# Altium footprint library ZZB_Lib.PcbLib: 83 footprints (part 2 of 6)
Each footprint in its own frame and in the unit in brackets; x right, y up, seen from the top. Pads: shape width x height; smd on the part's side, far side on the other; paste and mask are expansions set on the pad; w line width, h text height; cw(c..) or ccw(c..) is an arc to the next point about the centre after c.
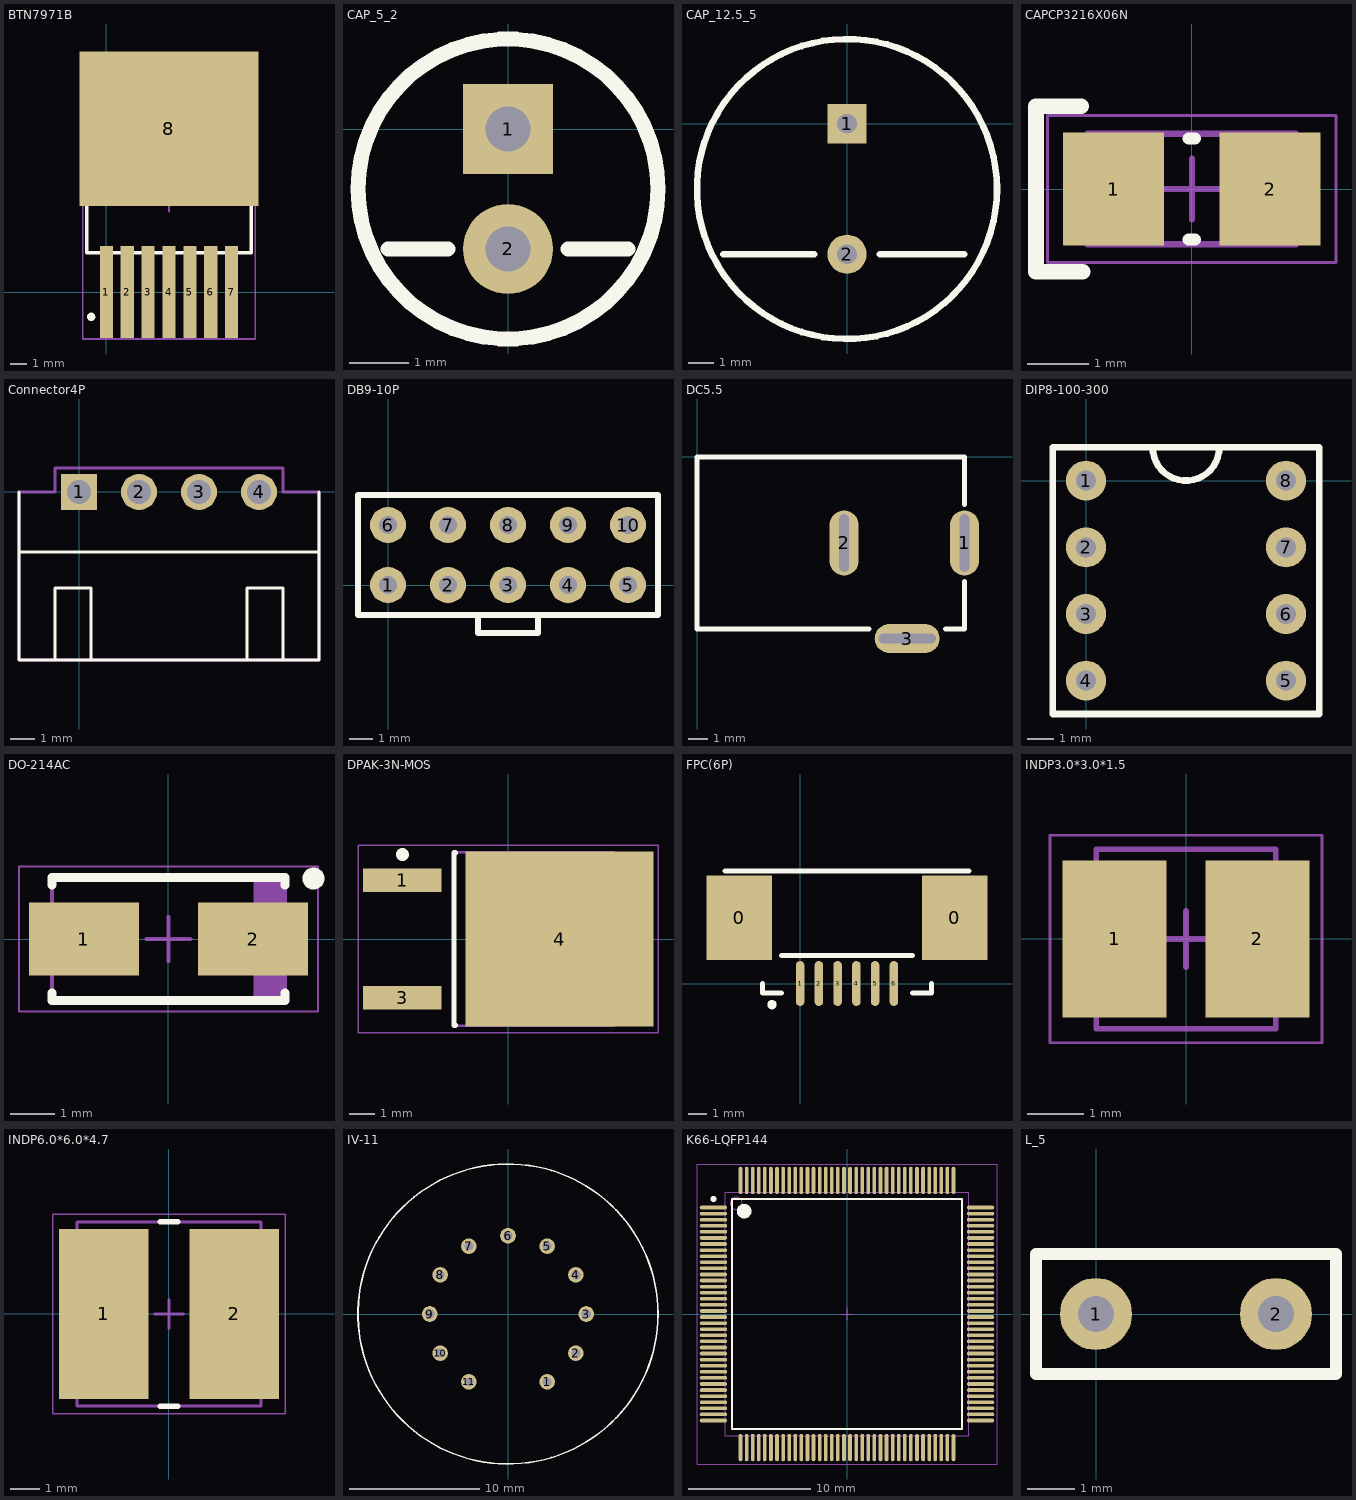
[diagram p1: the footprints below, top view; thin cyan lines are the x and y axes]

## BTN7971B [mm]
pads (8):
  rect 0.8x5.6 smd: 1(0,0) 2(1.27,0) 3(2.54,0) 4(3.81,0) 5(5.08,0) 6(6.35,0) 7(7.62,0)
  rect 10.9x9.4 smd: 8(3.81,9.95)
Top Overlay:
  circle w0.25: c-0.925,-1.5 r0.125
  lines w0.2: -1.19,6.15 -1.19,2.4 8.81,2.4 8.81,6.15
Mechanical 13:
  lines w0.1: -1.19,2.4 -1.19,11.65 8.81,11.65 8.81,2.4 -1.19,2.4
Mechanical 15:
  lines w0.1: 3.81,4.9 3.81,5.9 ; -1.44,-2.85 -1.44,13.65 9.06,13.65 9.06,-2.85 -1.44,-2.85
3D body: height 4.4, standoff 0.1, extent -1.19,2.4 8.81,11.65

## CAP_5_2 [mil]
pads (2):
  rect 60x60 hole 30: 1(0,0)
  round 60 hole 30: 2(0,-80)
Top Overlay:
  circle w10: c0,-40 r100
  lines w10: -80,-80 -40,-80 ; 40,-80 80,-80

## CAP_12.5_5 [mil]
pads (2):
  rect 60x60 hole 30: 1(0,0)
  round 60 hole 30: 2(0,-200)
Top Overlay:
  circle w10: c0,-100 r230
  lines w10: -190,-200 -50,-200 ; 50,-200 180,-200

## CAPCP3216X06N [mm]
pads (2):
  rect 1.65x1.85 smd: 1(-1.275,0) 2(1.275,0)
Top Overlay:
  lines w0.2: -0.05,-0.825 0.05,-0.825 ; -0.05,0.825 0.05,0.825
  lines w0.254: -1.803,1.346 -2.54,1.346 -2.54,-1.346 -1.778,-1.346
Mechanical 13:
  lines w0.1: -1.7,-0.9 -1.7,0.9 1.7,0.9 1.7,-0.9 -1.7,-0.9
Mechanical 15:
  lines w0.05: -2.35,-1.2 -2.35,1.2 2.35,1.2 2.35,-1.2 -2.35,-1.2
  lines w0.1: -0.5,0 0.5,0 ; 0,-0.5 0,0.5
3D body: height 0.6, standoff 0, extent -0.9,-0.9 0.9,0.9
3D body: height 0.6, standoff 0, extent -1.7,-0.9 -0.9,0.9
3D body: height 0.6, standoff 0, extent 0.9,-0.9 1.7,0.9

## Connector4P [mm]
pads (4):
  rect 1.5x1.5 hole 1: 1(0,0)
  round 1.5 hole 1: 2(2.5,0) 3(5,0) 4(7.5,0)
Top Overlay:
  lines w0.127: -2.5,-2.5 10,-2.5 ; -2.5,0 -2.5,-7 10,-7 10,0 ; -1,-7 -1,-4 0.5,-4 0.5,-7 ; 7,-7 7,-4 8.5,-4 8.5,-7
Mechanical 15:
  lines w0.127: 8.5,0 8.5,1 -1,1 -1,0 -2.5,0 -2.5,-7 10,-7 10,0 8.5,0 ; 8.5,0 8.5,0

## DB9-10P [mil]
pads (10):
  round 60 hole 30: 1(0,0) 2(100,0) 3(200,0) 4(300,0) 5(400,0) 6(0,100) 7(100,100) 8(200,100) 9(300,100) 10(400,100)
Top Overlay:
  lines w10: 150,-50 150,-80 250,-80 250,-50 ; -50,-50 -50,150 450,150 450,-50 -50,-50

## DC5.5 [mm]
pads (3):
  oval 1.524x3.4 hole 0.5 slot 3 at 90 deg: 1(14,-4.5) 2(7.7,-4.5)
  oval 3.4x1.524 hole 0.5 slot 3 at 0 deg: 3(11,-9.5)
Top Overlay:
  lines w0.254: 9,-9 0,-9 0,0 14,0 14,-2.5 ; 13,-9 14,-9 14,-6.5

## DIP8-100-300 [mil]
pads (8):
  round 60 hole 30: 1(0,0) 2(0,-100) 3(0,-200) 4(0,-300) 5(300,-300) 6(300,-200) 7(300,-100) 8(300,0)
Top Overlay:
  lines w10: 100,50 ccw(c150,50) 200,50 ; -50,-350 -50,50 350,50 350,-350 -50,-350

## DO-214AC [mm] "Molded Diode, 2-Leads, Body 5.00x2.49mm, IPC Medium Density"
height 2.42
pads (2):
  rect 2.5x1.65 smd: 1(-1.925,0) 2(1.925,0)
Top Overlay:
  circle w0.25: c3.3,1.375 r0.125
  lines w0.2: -2.65,-1.225 -2.65,-1.4 2.65,-1.4 2.65,-1.225 ; -2.65,1.225 -2.65,1.4 2.65,1.4 2.65,1.225
Mechanical 13:
  rectangle: 1.937,-1.4 2.65,1.4
  lines w0.1: -2.65,-1.4 -2.65,1.4 2.65,1.4 2.65,-1.4 -2.65,-1.4
Mechanical 15:
  lines w0.05: -3.4,-1.65 -3.4,1.65 3.4,1.65 3.4,-1.65 -3.4,-1.65
  lines w0.1: -0.5,0 0.5,0 ; 0,-0.5 0,0.5
3D body: height 2.42, standoff 0, extent -2.65,-1.4 2.65,1.4

## DPAK-3N-MOS [mm] "D-PAK, 3-Pads, Body 6.21x6.73mm (max), IPC Medium Density"
height 2.38
pads (3):
  rect 3.05x0.9 smd: 1(-4.1,2.28) 3(-4.1,-2.28)
  rect 7.3x6.8 smd: 4(2,0)
Top Overlay:
  circle w0.25: c-4.1,3.28 r0.125
  lines w0.2: -2.05,-3.35 -2.1,-3.35 -2.1,3.35 -2.05,3.35
Mechanical 13:
  lines w0.1: -2.1,-3.375 -2.1,3.375 4.12,3.375 4.12,-3.375 -2.1,-3.375
Mechanical 15:
  lines w0.05: -5.825,-3.65 -5.825,3.65 5.825,3.65 5.825,-3.65 -5.825,-3.65
  lines w0.1: -0.5,0 0.5,0 ; 0,-0.5 0,0.5
3D body: height 2.38, standoff 0, extent -2.1,-3.375 4.12,3.375

## FPC(6P) [mm]
pads (8):
  rect 3.5x4.5 smd: 0(-3.25,3.5) 0(8.25,3.5)
  oval 0.45x2.4 smd: 1(0,0) 2(1,0) 3(2,0) 4(3,0) 5(4,0) 6(5,0)
Top Overlay:
  circle w0.25: c-1.5,-1.125 r0.125
  lines w0.254: -4,6 9,6 ; -2,0 -2,-0.5 -1,-0.5 ; -1,1.5 6,1.5 ; 6,-0.5 7,-0.5 7,0

## INDP3.0*3.0*1.5 [mm] "Precision Wire Wound Inductor, 2-Leads, Body 3.10x3.10mm, IPC Medium Density"
height 1.5
pads (2):
  rect 1.85x2.8 smd: 1(-1.275,0) 2(1.275,0)
Mechanical 13:
  lines w0.1: -1.6,-1.6 1.6,-1.6 1.6,1.6 -1.6,1.6 -1.6,-1.6
Mechanical 15:
  lines w0.05: -2.425,-1.85 2.425,-1.85 2.425,1.85 -2.425,1.85 -2.425,-1.85
  lines w0.1: -0.5,0 0.5,0 ; 0,-0.5 0,0.5
3D body: height 1.5, standoff 0, extent -1.6,-1.6 1.6,1.6

## INDP6.0*6.0*4.7 [mm] "Precision Wire Wound Inductor, 2-Leads, Body 6.15x6.15mm, IPC Medium Density"
height 4.7
pads (2):
  rect 3.05x5.8 smd: 1(-2.225,0) 2(2.225,0)
Top Overlay:
  lines w0.2: -0.3,-3.15 0.3,-3.15 ; -0.3,3.15 0.3,3.15
Mechanical 13:
  lines w0.1: -3.15,-3.15 3.15,-3.15 3.15,3.15 -3.15,3.15 -3.15,-3.15
Mechanical 15:
  lines w0.05: -3.975,-3.4 3.975,-3.4 3.975,3.4 -3.975,3.4 -3.975,-3.4
  lines w0.1: -0.5,0 0.5,0 ; 0,-0.5 0,0.5
3D body: height 4.7, standoff 0, extent -3.15,-3.15 3.15,3.15

## IV-11 [mm]
pads (11):
  round 1.2 hole 0.7: 1(3,-5.2) 2(5.2,-3) 3(6,0) 4(5.2,3) 5(3,5.2) 6(0,6) 7(-3,5.2) 8(-5.2,3) 9(-6,0) 10(-5.2,-3) 11(-3,-5.2)
Top Overlay:
  circle w0.127: c0,0 r11.5

## K66-LQFP144 [mm] "TSQFP, 144-Leads, Body 20.00x20.00mm, Pitch 0.50mm, IPC Medium Density"
height 1.45
pads (144):
  oval 2.25x0.3 smd: 1(-10.975,8.75) 2(-10.975,8.25) 3(-10.975,7.75) 4(-10.975,7.25) 5(-10.975,6.75) 6(-10.975,6.25) 7(-10.975,5.75) 8(-10.975,5.25) 9(-10.975,4.75) 10(-10.975,4.25) 11(-10.975,3.75) 12(-10.975,3.25) 13(-10.975,2.75) 14(-10.975,2.25) 15(-10.975,1.75) 16(-10.975,1.25) 17(-10.975,0.75) 18(-10.975,0.25) 19(-10.975,-0.25) 20(-10.975,-0.75) 21(-10.975,-1.25) 22(-10.975,-1.75) 23(-10.975,-2.25) 24(-10.975,-2.75) 25(-10.975,-3.25) 26(-10.975,-3.75) 27(-10.975,-4.25) 28(-10.975,-4.75) 29(-10.975,-5.25) 30(-10.975,-5.75) 31(-10.975,-6.25) 32(-10.975,-6.75) 33(-10.975,-7.25) 34(-10.975,-7.75) 35(-10.975,-8.25) 36(-10.975,-8.75) 73(10.975,-8.75) 74(10.975,-8.25) 75(10.975,-7.75) 76(10.975,-7.25) 77(10.975,-6.75) 78(10.975,-6.25) 79(10.975,-5.75) 80(10.975,-5.25) 81(10.975,-4.75) 82(10.975,-4.25) 83(10.975,-3.75) 84(10.975,-3.25) 85(10.975,-2.75) 86(10.975,-2.25) 87(10.975,-1.75) 88(10.975,-1.25) 89(10.975,-0.75) 90(10.975,-0.25) 91(10.975,0.25) 92(10.975,0.75) 93(10.975,1.25) 94(10.975,1.75) 95(10.975,2.25) 96(10.975,2.75) 97(10.975,3.25) 98(10.975,3.75) 99(10.975,4.25) 100(10.975,4.75) 101(10.975,5.25) 102(10.975,5.75) 103(10.975,6.25) 104(10.975,6.75) 105(10.975,7.25) 106(10.975,7.75) 107(10.975,8.25) 108(10.975,8.75)
  oval 0.3x2.25 smd: 37(-8.75,-10.975) 38(-8.25,-10.975) 39(-7.75,-10.975) 40(-7.25,-10.975) 41(-6.75,-10.975) 42(-6.25,-10.975) 43(-5.75,-10.975) 44(-5.25,-10.975) 45(-4.75,-10.975) 46(-4.25,-10.975) 47(-3.75,-10.975) 48(-3.25,-10.975) 49(-2.75,-10.975) 50(-2.25,-10.975) 51(-1.75,-10.975) 52(-1.25,-10.975) 53(-0.75,-10.975) 54(-0.25,-10.975) 55(0.25,-10.975) 56(0.75,-10.975) 57(1.25,-10.975) 58(1.75,-10.975) 59(2.25,-10.975) 60(2.75,-10.975) 61(3.25,-10.975) 62(3.75,-10.975) 63(4.25,-10.975) 64(4.75,-10.975) 65(5.25,-10.975) 66(5.75,-10.975) 67(6.25,-10.975) 68(6.75,-10.975) 69(7.25,-10.975) 70(7.75,-10.975) 71(8.25,-10.975) 72(8.75,-10.975) 109(8.75,10.975) 110(8.25,10.975) 111(7.75,10.975) 112(7.25,10.975) 113(6.75,10.975) 114(6.25,10.975) 115(5.75,10.975) 116(5.25,10.975) 117(4.75,10.975) 118(4.25,10.975) 119(3.75,10.975) 120(3.25,10.975) 121(2.75,10.975) 122(2.25,10.975) 123(1.75,10.975) 124(1.25,10.975) 125(0.75,10.975) 126(0.25,10.975) 127(-0.25,10.975) 128(-0.75,10.975) 129(-1.25,10.975) 130(-1.75,10.975) 131(-2.25,10.975) 132(-2.75,10.975) 133(-3.25,10.975) 134(-3.75,10.975) 135(-4.25,10.975) 136(-4.75,10.975) 137(-5.25,10.975) 138(-5.75,10.975) 139(-6.25,10.975) 140(-6.75,10.975) 141(-7.25,10.975) 142(-7.75,10.975) 143(-8.25,10.975) 144(-8.75,10.975)
Top Overlay:
  circle w0.6: c-8.45,8.45 r0.3
  circle w0.25: c-10.975,9.45 r0.125
  lines w0.2: -9.45,-9.45 9.45,-9.45 9.45,9.45 -9.45,9.45 -9.45,-9.45
Mechanical 13:
  circle w0.1: c-9.1,9.1 r0.5
  lines w0.1: -10,-10 10,-10 10,10 -10,10 -10,-10
Mechanical 15:
  lines w0.05: -12.325,-12.325 12.325,-12.325 12.325,12.325 -12.325,12.325 -12.325,-12.325
  lines w0.1: -0.5,0 0.5,0 ; 0,-0.5 0,0.5
3D body: height 1.45, standoff 0.25, extent -10,-10 10,10

## L_5 [mil]
pads (2):
  round 60 hole 30: 1(0,0) 2(150,0)
Top Overlay:
  lines w10: -50,-50 200,-50 200,50 -50,50 -50,-50